# Altium footprint library 2118728-2.PcbLib: 1 footprints
Each footprint in its own frame and in the unit in brackets; x right, y up, seen from the top. Pads: shape width x height; smd on the part's side, far side on the other; paste and mask are expansions set on the pad; w line width, h text height; cw(c..) or ccw(c..) is an arc to the next point about the centre after c.
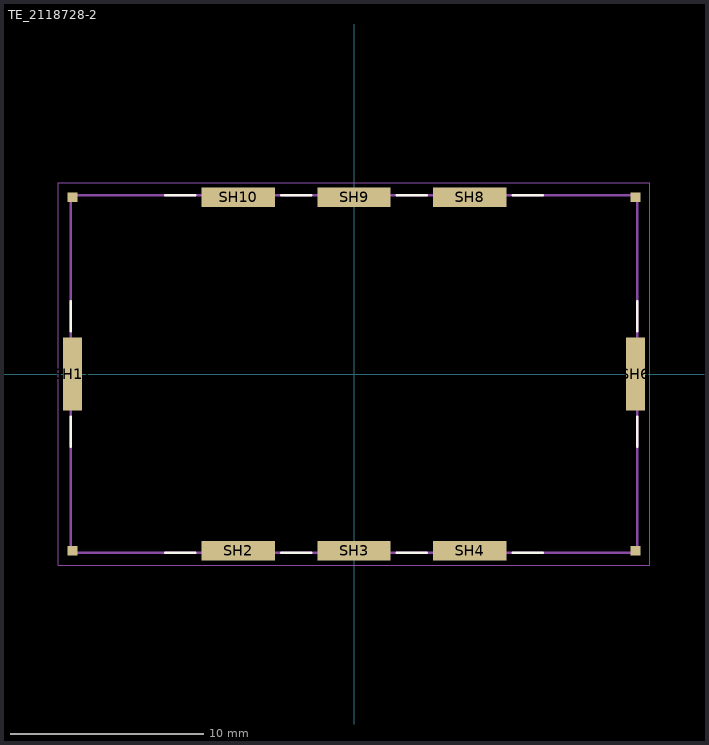
[diagram p0: the footprint, top view; thin cyan lines are the x and y axes]

## TE_2118728-2 [mm]
pads (12):
  rect 0.5x0.5 smd paste-1 mask+0: SH1(-14.58,-9.15) SH5(14.58,-9.15) SH7(14.58,9.15) SH11(-14.58,9.15)
  rect 3.8x1 smd: SH2(-6,-9.15) SH3(0,-9.15) SH4(6,-9.15) SH8(6,9.15) SH9(0,9.15) SH10(-6,9.15)
  rect 1x3.8 smd: SH6(14.58,0) SH12(-14.58,0)
Top Overlay:
  lines w0.127: -14.68,-3.78 -14.68,-2.22 ; -14.68,2.22 -14.68,3.78 ; -9.78,-9.25 -8.22,-9.25 ; -9.78,9.25 -8.22,9.25 ; -3.78,-9.25 -2.22,-9.25 ; -3.78,9.25 -2.22,9.25 ; 2.22,-9.25 3.78,-9.25 ; 2.22,9.25 3.78,9.25 ; 8.22,-9.25 9.78,-9.25 ; 8.22,9.25 9.78,9.25 ; 14.68,-3.78 14.68,-2.22 ; 14.68,2.22 14.68,3.78
Mechanical 13:
  lines w0.127: -14.68,-9.25 14.68,-9.25 14.68,9.25 -14.68,9.25 -14.68,-9.25
Mechanical 15:
  lines w0.05: -15.33,-9.9 -15.33,9.9 15.33,9.9 15.33,-9.9 -15.33,-9.9
3D body "step_temp.STEP": height 7.01, standoff 0.01, extent -14.68,-9.25 14.68,9.25